# Altium footprint library SAMTEC_SMA-J-P-H-ST-EM1.PcbLib: 1 footprints
Each footprint in its own frame and in the unit in brackets; x right, y up, seen from the top. Pads: shape width x height; smd on the part's side, far side on the other; paste and mask are expansions set on the pad; w line width, h text height; cw(c..) or ccw(c..) is an arc to the next point about the centre after c.
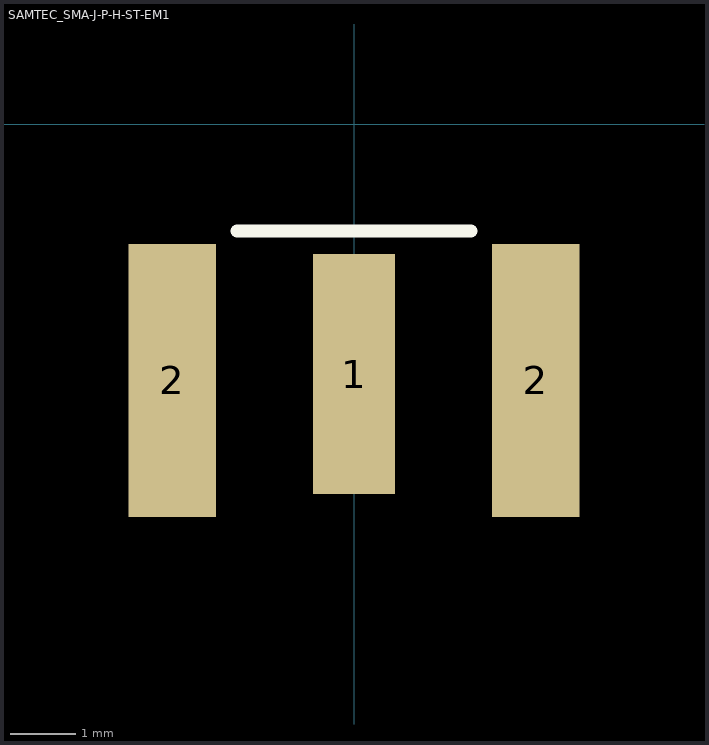
[diagram p0: the footprint, top view; thin cyan lines are the x and y axes]

## SAMTEC_SMA-J-P-H-ST-EM1 [mm]
pads (3):
  rect 1.27x3.7 smd: 1(0,-3.85)
  rect 1.35x4.2 smd: 2(-2.8,-3.95) 2(2.8,-3.95)
Top Overlay:
  lines w0.2: -1.8,-1.65 1.8,-1.65
3D body "SMA_J_P_H_ST_EM1.sldprt": height 3.81, standoff -2.54, extent -3.175,-5.61 3.175,7.72